# EAGLE library part LM5576 (library _RoweTel)
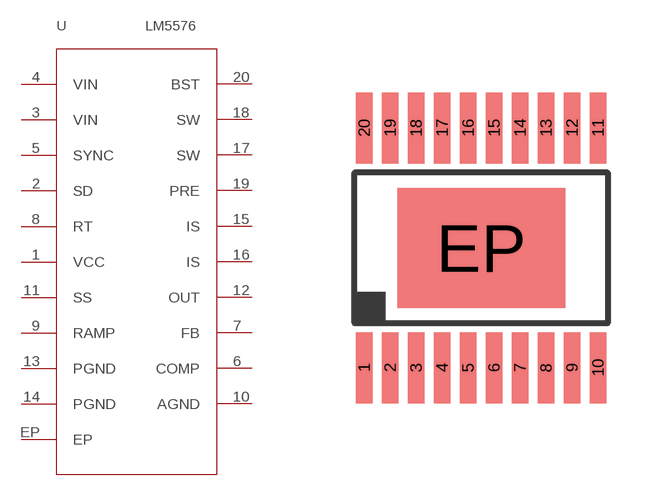
[diagram p30: symbol with the pads of MXA20A; footprint MXA20A]

Designator prefix U

## LM5576  [MXA20A]
1  VCC
2  SD
3  VIN
4  VIN
5  SYNC
6  COMP
7  FB
8  RT
9  RAMP
10  AGND
11  SS
12  OUT
13  PGND
14  PGND
15  IS
16  IS
17  SW
18  SW
19  PRE
20  BST
EP  EP

## Footprint MXA20A (pad centres in mm)
smd 0.42 x 1.78: 1 -2.925,-3; 2 -2.275,-3; 3 -1.625,-3; 4 -0.975,-3; 5 -0.325,-3; 6 0.325,-3; 7 0.975,-3; 8 1.625,-3; 9 2.275,-3; 10 2.925,-3; 11 2.925,3; 12 2.275,3; 13 1.625,3; 14 0.975,3; 15 0.325,3; 16 -0.325,3; 17 -0.975,3; 18 -1.625,3; 19 -2.275,3; 20 -2.925,3
smd 4.2 x 3: EP 0,0